# Altium footprint library Misc.PcbLib: 18 footprints (part 1 of 2)
Each footprint in its own frame and in the unit in brackets; x right, y up, seen from the top. Pads: shape width x height; smd on the part's side, far side on the other; paste and mask are expansions set on the pad; w line width, h text height; cw(c..) or ccw(c..) is an arc to the next point about the centre after c.
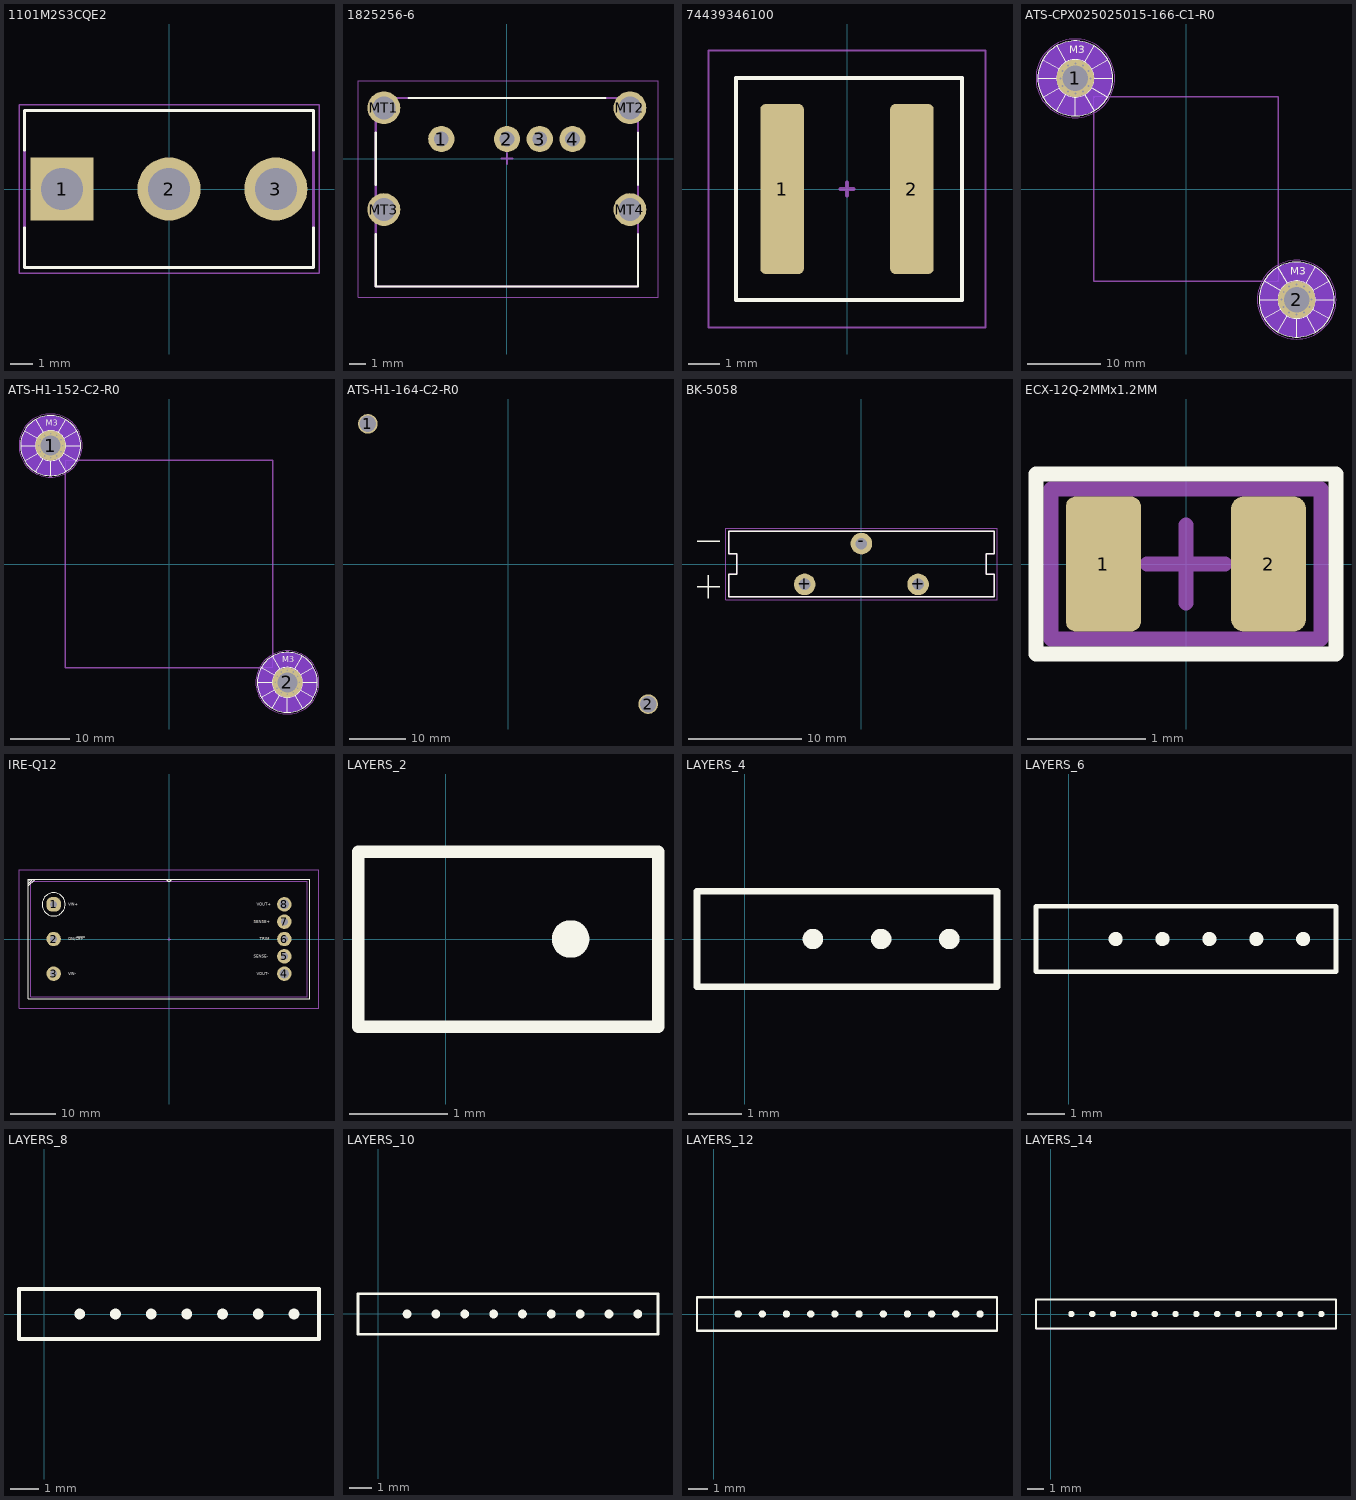
[diagram p0: the footprints below, top view; thin cyan lines are the x and y axes]

## 1101M2S3CQE2 [mm]
pads (3):
  rect 2.775x2.775 / inner round 2.775 / far side rect 2.775x2.775 hole 1.85: 1(-4.7,0)
  round 2.775 hole 1.85: 2(0,0) 3(4.7,0)
Top Overlay:
  lines w0.127: -6.35,-1.707 -6.35,-3.454 6.35,-3.454 6.35,-1.707 ; -6.35,1.707 -6.35,3.454 6.35,3.454 6.35,1.707
Top Designator:
  text "'.Comment'" at -2.54,-1.143 h0.51
  text ".Designator" at -2.539,-0.169 h0.51
Top Assembly (Mech13):
  lines w0.127: -0.33,0 0.33,0 ; 0,-0.33 0,0.33 ; -6.35,-3.454 -6.35,3.454 6.35,3.454 6.35,-3.454 -6.35,-3.454
Top Courtyard (Mech15):
  lines w0.064: -6.6,-3.704 6.6,-3.704 6.6,3.704 -6.6,3.704 -6.6,-3.704
3D body "1101M2S3CQE2--3DModel-STEP-56544.STEP": height 13.35, standoff -4.43, extent -6.35,-3.302 6.35,3.302

## 1825256-6 [mm] "SWITCH SLIDE SP3T 0.4VA 20V"
height 7.5
pads (8):
  round 1.6 hole 0.9: 1(-4,1.2) 2(0,1.2) 3(2,1.2) 4(4,1.2)
  round 2 hole 1.4: MT1(-7.5,3.1) MT2(7.5,3.1) MT3(-7.5,-3.1) MT4(7.5,-3.1)
Top Overlay:
  lines w0.127: -8,-4.6 -8,-7.8 8,-7.8 8,-4.6 ; -8,-1.6 -8,1.6 ; -6,3.7 6,3.7 ; 8,-1.6 8,1.6
Top Designator:
  text ".Designator" at -2.539,-0.069 h0.51
  text "'.Comment'" at -2.54,-1.043 h0.51
Top Assembly (Mech13):
  lines w0.127: -0.33,0 0.33,0 ; 0,-0.33 0,0.33 ; -8,-7.8 -8,3.7 8,3.7 8,-7.8 -8,-7.8
Top Courtyard (Mech15):
  lines w0.064: -9.08,-8.452 -9.08,4.756 9.208,4.756 9.208,-8.452 -9.08,-8.452
3D body "c-1825256-6-b1-3d.stp": height 7.51, standoff -3.49, extent -8,-7.8 8,3.4

## 74439346100 [mil]
height 240
pads (2):
  rrect25% 55x215 smd: 1(-82,0) 2(82,0)
Top Overlay:
  lines w5: -140,-140 -140,140 145,140 145,-140 -140,-140
Top Designator:
  text "'.Designator'" at -107.61,20.67 h20
  text "'.Comment'" at -107.61,-29.47 h20
Top Assembly (Mech13):
  lines w5: -8,0 8,0 ; 0,-8 0,8 ; -140,-140 -140,140 145,140 145,-140 -140,-140
Top Courtyard (Mech15):
  lines w2.5: -175,-175 175,-175 175,175 -175,175 -175,-175
3D body "IND_74439346100_WRE.step": height 240.12, standoff 0, extent -130.98,-135 130.98,135

## ATS-CPX025025015-166-C1-R0 [mm]
pads (2):
  round 5.08 hole 3.429: 1(-15,15) 2(15,-15)
via -13.984,16.76 diameter 0.508 hole 0.254
via -13.24,16.016 diameter 0.508 hole 0.254
via -12.968,15 diameter 0.508 hole 0.254
via -13.24,13.984 diameter 0.508 hole 0.254
via -13.984,13.24 diameter 0.508 hole 0.254
via -15,12.968 diameter 0.508 hole 0.254
via -16.016,13.24 diameter 0.508 hole 0.254
via -16.76,13.984 diameter 0.508 hole 0.254
via -17.032,15 diameter 0.508 hole 0.254
via -16.753,16.019 diameter 0.508 hole 0.254
via -16.016,16.76 diameter 0.508 hole 0.254
via -15,17.032 diameter 0.508 hole 0.254
via 16.016,-13.24 diameter 0.508 hole 0.254
via 16.76,-13.984 diameter 0.508 hole 0.254
via 17.032,-15 diameter 0.508 hole 0.254
via 16.76,-16.016 diameter 0.508 hole 0.254
via 16.016,-16.76 diameter 0.508 hole 0.254
via 15,-17.032 diameter 0.508 hole 0.254
via 13.984,-16.76 diameter 0.508 hole 0.254
via 13.24,-16.016 diameter 0.508 hole 0.254
via 12.968,-15 diameter 0.508 hole 0.254
via 13.247,-13.981 diameter 0.508 hole 0.254
via 13.984,-13.24 diameter 0.508 hole 0.254
via 15,-12.968 diameter 0.508 hole 0.254
Top Layer keep-out:
  region: -15,9.92 -15.333,9.92 -15.993,10.007 -16.636,10.179 -17.252,10.434 -17.828,10.767 -18.357,11.172 -18.828,11.643 -19.233,12.172 -19.566,12.748 -19.821,13.364 -19.993,14.007 -20.08,14.667 -20.08,15 -20.08,15.333 -19.993,15.993 -19.821,16.636 -19.566,17.252 -19.233,17.828 -18.828,18.357 -18.357,18.828 -17.828,19.233 -17.252,19.566 -16.636,19.821 -15.993,19.993 -15.333,20.08 -15,20.08 -14.667,20.08 -14.007,19.993 -13.364,19.821 -12.748,19.566 -12.172,19.233 -11.643,18.828 -11.172,18.357 -10.767,17.828 -10.434,17.252 -10.179,16.636 -10.007,15.993 -9.92,15.333 -9.92,15 -9.92,14.667 -10.007,14.007 -10.179,13.364 -10.434,12.748 -10.767,12.172 -11.172,11.643 -11.643,11.172 -12.172,10.767 -12.748,10.434 -13.364,10.179 -14.007,10.007 -14.667,9.92
  region: 15,-20.08 14.667,-20.08 14.007,-19.993 13.364,-19.821 12.748,-19.566 12.172,-19.233 11.643,-18.828 11.172,-18.357 10.767,-17.828 10.434,-17.252 10.179,-16.636 10.007,-15.993 9.92,-15.333 9.92,-15 9.92,-14.667 10.007,-14.007 10.179,-13.364 10.434,-12.748 10.767,-12.172 11.172,-11.643 11.643,-11.172 12.172,-10.767 12.748,-10.434 13.364,-10.179 14.007,-10.007 14.667,-9.92 15,-9.92 15.333,-9.92 15.993,-10.007 16.636,-10.179 17.252,-10.434 17.828,-10.767 18.357,-11.172 18.828,-11.643 19.233,-12.172 19.566,-12.748 19.821,-13.364 19.993,-14.007 20.08,-14.667 20.08,-15 20.08,-15.333 19.993,-15.993 19.821,-16.636 19.566,-17.252 19.233,-17.828 18.828,-18.357 18.357,-18.828 17.828,-19.233 17.252,-19.566 16.636,-19.821 15.993,-19.993 15.333,-20.08
Bottom Layer keep-out:
  region: -15,9.92 -15.333,9.92 -15.993,10.007 -16.636,10.179 -17.252,10.434 -17.828,10.767 -18.357,11.172 -18.828,11.643 -19.233,12.172 -19.566,12.748 -19.821,13.364 -19.993,14.007 -20.08,14.667 -20.08,15 -20.08,15.333 -19.993,15.993 -19.821,16.636 -19.566,17.252 -19.233,17.828 -18.828,18.357 -18.357,18.828 -17.828,19.233 -17.252,19.566 -16.636,19.821 -15.993,19.993 -15.333,20.08 -15,20.08 -14.667,20.08 -14.007,19.993 -13.364,19.821 -12.748,19.566 -12.172,19.233 -11.643,18.828 -11.172,18.357 -10.767,17.828 -10.434,17.252 -10.179,16.636 -10.007,15.993 -9.92,15.333 -9.92,15 -9.92,14.667 -10.007,14.007 -10.179,13.364 -10.434,12.748 -10.767,12.172 -11.172,11.643 -11.643,11.172 -12.172,10.767 -12.748,10.434 -13.364,10.179 -14.007,10.007 -14.667,9.92
  region: 15,-20.08 14.667,-20.08 14.007,-19.993 13.364,-19.821 12.748,-19.566 12.172,-19.233 11.643,-18.828 11.172,-18.357 10.767,-17.828 10.434,-17.252 10.179,-16.636 10.007,-15.993 9.92,-15.333 9.92,-15 9.92,-14.667 10.007,-14.007 10.179,-13.364 10.434,-12.748 10.767,-12.172 11.172,-11.643 11.643,-11.172 12.172,-10.767 12.748,-10.434 13.364,-10.179 14.007,-10.007 14.667,-9.92 15,-9.92 15.333,-9.92 15.993,-10.007 16.636,-10.179 17.252,-10.434 17.828,-10.767 18.357,-11.172 18.828,-11.643 19.233,-12.172 19.566,-12.748 19.821,-13.364 19.993,-14.007 20.08,-14.667 20.08,-15 20.08,-15.333 19.993,-15.993 19.821,-16.636 19.566,-17.252 19.233,-17.828 18.828,-18.357 18.357,-18.828 17.828,-19.233 17.252,-19.566 16.636,-19.821 15.993,-19.993 15.333,-20.08
Top Overlay:
  circle w0.127: c-15,15 r5.08
  circle w0.127: c-15,15 r2.54
  circle w0.127: c15,-15 r5.08
  circle w0.127: c15,-15 r2.54
  lines w0.127: -20.08,15 -17.54,15 ; -19.399,12.46 -17.2,13.73 ; -19.399,17.54 -17.2,16.27 ; -17.54,10.601 -16.27,12.8 ; -17.54,19.399 -16.27,17.2 ; -15,9.92 -15,12.46 ; -13.73,12.8 -12.46,10.601 ; -13.73,17.2 -12.46,19.399 ; -12.8,13.73 -10.601,12.46 ; -12.8,16.27 -10.601,17.54 ; -12.46,15 -9.92,15 ; 9.92,-15 12.46,-15 ; 10.601,-17.54 12.8,-16.27 ; 10.601,-12.46 12.8,-13.73 ; 12.46,-19.399 13.73,-17.2 ; 12.46,-10.601 13.73,-12.8 ; 15,-20.08 15,-17.54 ; 16.27,-17.2 17.54,-19.399 ; 16.27,-12.8 17.54,-10.601 ; 17.2,-16.27 19.399,-17.54 ; 17.2,-13.73 19.399,-12.46 ; 17.54,-15 20.08,-15
  text "M3" at -15.838,18.378 h1.02
  text "M3" at 14.162,-11.622 h1.02
Bottom Overlay:
  text "M3" at -14.162,18.378 h1.02
  text "M3" at 15.838,-11.622 h1.02
Top Assembly (Mech13):
  circle w0.127: c-15,15 r2.54
  circle w0.127: c-15,15 r1.714
  circle w0.127: c15,-15 r2.54
  circle w0.127: c15,-15 r1.714
  lines w0.254: -12.5,-12.5 -12.5,12.5 12.5,12.5 12.5,-12.5 -12.5,-12.5
  text "M3" at -15.838,18.378 h1.02
  text "M3" at 14.162,-11.622 h1.02
Top Courtyard (Mech15):
  circle w0.064: c-15,15 r5.334
  circle w0.064: c15,-15 r5.334
Bottom Courtyard (Mech16):
  circle w0.064: c-15,15 r5.334
  circle w0.064: c15,-15 r5.334
3D body "leptit-Body.step": height 17.23, standoff 2.23, extent -18.298,-18.293 18.288,18.293

## ATS-H1-152-C2-R0 [mm]
pads (2):
  round 5.08 hole 3.429: 1(-20,20) 2(20,-20)
via -18.984,21.76 diameter 0.508 hole 0.254
via -18.24,21.016 diameter 0.508 hole 0.254
via -17.968,20 diameter 0.508 hole 0.254
via -18.24,18.984 diameter 0.508 hole 0.254
via -18.984,18.24 diameter 0.508 hole 0.254
via -20,17.968 diameter 0.508 hole 0.254
via -21.016,18.24 diameter 0.508 hole 0.254
via -21.76,18.984 diameter 0.508 hole 0.254
via -22.032,20 diameter 0.508 hole 0.254
via -21.753,21.019 diameter 0.508 hole 0.254
via -21.016,21.76 diameter 0.508 hole 0.254
via -20,22.032 diameter 0.508 hole 0.254
via 21.016,-18.24 diameter 0.508 hole 0.254
via 21.76,-18.984 diameter 0.508 hole 0.254
via 22.032,-20 diameter 0.508 hole 0.254
via 21.76,-21.016 diameter 0.508 hole 0.254
via 21.016,-21.76 diameter 0.508 hole 0.254
via 20,-22.032 diameter 0.508 hole 0.254
via 18.984,-21.76 diameter 0.508 hole 0.254
via 18.24,-21.016 diameter 0.508 hole 0.254
via 17.968,-20 diameter 0.508 hole 0.254
via 18.247,-18.981 diameter 0.508 hole 0.254
via 18.984,-18.24 diameter 0.508 hole 0.254
via 20,-17.968 diameter 0.508 hole 0.254
Top Layer keep-out:
  region: -20,14.92 -20.333,14.92 -20.993,15.007 -21.636,15.179 -22.252,15.434 -22.828,15.767 -23.357,16.172 -23.828,16.643 -24.233,17.172 -24.566,17.748 -24.821,18.364 -24.993,19.007 -25.08,19.667 -25.08,20 -25.08,20.333 -24.993,20.993 -24.821,21.636 -24.566,22.252 -24.233,22.828 -23.828,23.357 -23.357,23.828 -22.828,24.233 -22.252,24.566 -21.636,24.821 -20.993,24.993 -20.333,25.08 -20,25.08 -19.667,25.08 -19.007,24.993 -18.364,24.821 -17.748,24.566 -17.172,24.233 -16.643,23.828 -16.172,23.357 -15.767,22.828 -15.434,22.252 -15.179,21.636 -15.007,20.993 -14.92,20.333 -14.92,20 -14.92,19.667 -15.007,19.007 -15.179,18.364 -15.434,17.748 -15.767,17.172 -16.172,16.643 -16.643,16.172 -17.172,15.767 -17.748,15.434 -18.364,15.179 -19.007,15.007 -19.667,14.92
  region: 20,-25.08 19.667,-25.08 19.007,-24.993 18.364,-24.821 17.748,-24.566 17.172,-24.233 16.643,-23.828 16.172,-23.357 15.767,-22.828 15.434,-22.252 15.179,-21.636 15.007,-20.993 14.92,-20.333 14.92,-20 14.92,-19.667 15.007,-19.007 15.179,-18.364 15.434,-17.748 15.767,-17.172 16.172,-16.643 16.643,-16.172 17.172,-15.767 17.748,-15.434 18.364,-15.179 19.007,-15.007 19.667,-14.92 20,-14.92 20.333,-14.92 20.993,-15.007 21.636,-15.179 22.252,-15.434 22.828,-15.767 23.357,-16.172 23.828,-16.643 24.233,-17.172 24.566,-17.748 24.821,-18.364 24.993,-19.007 25.08,-19.667 25.08,-20 25.08,-20.333 24.993,-20.993 24.821,-21.636 24.566,-22.252 24.233,-22.828 23.828,-23.357 23.357,-23.828 22.828,-24.233 22.252,-24.566 21.636,-24.821 20.993,-24.993 20.333,-25.08
Bottom Layer keep-out:
  region: -20,14.92 -20.333,14.92 -20.993,15.007 -21.636,15.179 -22.252,15.434 -22.828,15.767 -23.357,16.172 -23.828,16.643 -24.233,17.172 -24.566,17.748 -24.821,18.364 -24.993,19.007 -25.08,19.667 -25.08,20 -25.08,20.333 -24.993,20.993 -24.821,21.636 -24.566,22.252 -24.233,22.828 -23.828,23.357 -23.357,23.828 -22.828,24.233 -22.252,24.566 -21.636,24.821 -20.993,24.993 -20.333,25.08 -20,25.08 -19.667,25.08 -19.007,24.993 -18.364,24.821 -17.748,24.566 -17.172,24.233 -16.643,23.828 -16.172,23.357 -15.767,22.828 -15.434,22.252 -15.179,21.636 -15.007,20.993 -14.92,20.333 -14.92,20 -14.92,19.667 -15.007,19.007 -15.179,18.364 -15.434,17.748 -15.767,17.172 -16.172,16.643 -16.643,16.172 -17.172,15.767 -17.748,15.434 -18.364,15.179 -19.007,15.007 -19.667,14.92
  region: 20,-25.08 19.667,-25.08 19.007,-24.993 18.364,-24.821 17.748,-24.566 17.172,-24.233 16.643,-23.828 16.172,-23.357 15.767,-22.828 15.434,-22.252 15.179,-21.636 15.007,-20.993 14.92,-20.333 14.92,-20 14.92,-19.667 15.007,-19.007 15.179,-18.364 15.434,-17.748 15.767,-17.172 16.172,-16.643 16.643,-16.172 17.172,-15.767 17.748,-15.434 18.364,-15.179 19.007,-15.007 19.667,-14.92 20,-14.92 20.333,-14.92 20.993,-15.007 21.636,-15.179 22.252,-15.434 22.828,-15.767 23.357,-16.172 23.828,-16.643 24.233,-17.172 24.566,-17.748 24.821,-18.364 24.993,-19.007 25.08,-19.667 25.08,-20 25.08,-20.333 24.993,-20.993 24.821,-21.636 24.566,-22.252 24.233,-22.828 23.828,-23.357 23.357,-23.828 22.828,-24.233 22.252,-24.566 21.636,-24.821 20.993,-24.993 20.333,-25.08
Top Overlay:
  circle w0.127: c-20,20 r5.08
  circle w0.127: c-20,20 r2.54
  circle w0.127: c20,-20 r5.08
  circle w0.127: c20,-20 r2.54
  lines w0.127: -25.08,20 -22.54,20 ; -24.399,17.46 -22.2,18.73 ; -24.399,22.54 -22.2,21.27 ; -22.54,15.601 -21.27,17.8 ; -22.54,24.399 -21.27,22.2 ; -20,14.92 -20,17.46 ; -18.73,17.8 -17.46,15.601 ; -18.73,22.2 -17.46,24.399 ; -17.8,18.73 -15.601,17.46 ; -17.8,21.27 -15.601,22.54 ; -17.46,20 -14.92,20 ; 14.92,-20 17.46,-20 ; 15.601,-22.54 17.8,-21.27 ; 15.601,-17.46 17.8,-18.73 ; 17.46,-24.399 18.73,-22.2 ; 17.46,-15.601 18.73,-17.8 ; 20,-25.08 20,-22.54 ; 21.27,-22.2 22.54,-24.399 ; 21.27,-17.8 22.54,-15.601 ; 22.2,-21.27 24.399,-22.54 ; 22.2,-18.73 24.399,-17.46 ; 22.54,-20 25.08,-20
  text "M3" at -20.838,23.378 h1.02
  text "M3" at 19.162,-16.622 h1.02
Bottom Overlay:
  text "M3" at -19.162,23.378 h1.02
  text "M3" at 20.838,-16.622 h1.02
Top Assembly (Mech13):
  circle w0.127: c-20,20 r2.54
  circle w0.127: c-20,20 r1.714
  circle w0.127: c20,-20 r2.54
  circle w0.127: c20,-20 r1.714
  lines w0.254: -17.5,-17.5 17.5,-17.5 17.5,17.5 -17.5,17.5 -17.5,-17.5
  text "M3" at -20.838,23.378 h1.02
  text "M3" at 19.162,-16.622 h1.02
Top Courtyard (Mech15):
  circle w0.064: c-20,20 r5.334
  circle w0.064: c20,-20 r5.334
Bottom Courtyard (Mech16):
  circle w0.064: c-20,20 r5.334
  circle w0.064: c20,-20 r5.334
3D body "legros.-Body.step": height 38.5, standoff 2.3, extent -24.125,-24.125 24.125,24.125

## ATS-H1-164-C2-R0 [mm]
pads (2):
  round 3.5 hole 3 paste-2539.97: 1(-25,25)
  round 3.5 hole 3: 2(25,-25)
3D body "legros.-Body.step": height 37.23, standoff 2.23, extent -29.918,-29.945 29.972,29.945

## BK-5058 [mm] "BATT HLDR COIN 20MM 1 CEL PC PIN"
pads (3):
  round 1.905 hole 1.016: +(-5,-1.8) +(5,-1.8) -(0,1.8)
Top Overlay:
  lines w0.127: -14.5,-2 -13.5,-2 ; -14.5,2 -12.5,2 ; -13.5,-3 -13.5,-2 ; -13.5,-1 -13.5,-2 ; -12.5,-2 -13.5,-2 ; -11.71,-2.9 11.71,-2.9 11.71,-0.9 11,-0.9 11,0.9 11.71,0.9 11.71,2.9 -11.71,2.9 -11.71,0.9 -11,0.9 -11,-0.9 -11.71,-0.9 -11.71,-2.9
Top Assembly (Mech13):
  lines w0.127: -11.71,-2.9 11.71,-2.9 11.71,-0.9 11,-0.9 11,0.9 11.71,0.9 11.71,2.9 -11.71,2.9 -11.71,0.9 -11,0.9 -11,-0.9 -11.71,-0.9 -11.71,-2.9
Top Courtyard (Mech15):
  lines w0.05: -11.96,-3.15 11.96,-3.15 11.96,3.15 -11.96,3.15 -11.96,-3.15
3D body "BK-5058.step": height 21.42, standoff -2.78, extent -11.71,-2.9 11.71,2.9

## ECX-12Q-2MMx1.2MM [mm] "Crystal Oscillator Footprint ESC Inc. / For ECS-.327-7-12QS-TR"
height 0.635
pads (2):
  rrect25% 0.635x1.143 smd: 1(-0.7,0)
  rrect33% 0.635x1.143 smd: 2(0.7,0)
Top Overlay:
  lines w0.127: -1.27,-0.762 -1.27,0.762 1.27,0.762 1.27,-0.762 -1.27,-0.762
Top Designator:
  text ".Designator" at -2.539,-0.069 h0.51
  text "'.Comment'" at -2.54,-1.043 h0.51
Top Assembly (Mech13):
  lines w0.127: -0.33,0 0.33,0 ; 0,-0.33 0,0.33 ; -1.143,-0.635 -1.143,0.635 1.143,0.635 1.143,-0.635 -1.143,-0.635
Top Courtyard (Mech15):
  lines w0.064: -1.27,-0.762 -1.27,0.762 1.27,0.762 1.27,-0.762 -1.27,-0.762
3D body "ECS-.327-12.5-12-TR.STEP": height 0.61, standoff 0.01, extent -1,-0.6 1,0.6

## IRE-Q12 [mil]
height 500
pads (8):
  rrect75% 125x125 hole 62: 1(-1000,300)
  round 125 hole 62: 2(-1000,0) 3(-1000,-300) 5(1000,-150) 6(1000,0) 7(1000,150)
  round 125 hole 84: 4(1000,-300) 8(1000,300)
Top Overlay:
  circle w5: c-1000,300 r100
  lines w5: -1220,460 -1160,520 ; -1220,480 -1180,520 ; -1220,500 -1200,520 ; -800,20 -730,20 ; -20,520 ccw(c0,520) 20,520 ; -1220,-520 1220,-520 1220,520 -1220,520 -1220,-520
  text "VIN+" at -875,287.5 h25
  text "ON/OFF" at -875,-12.5 h25
  text "VIN-" at -875,-312.5 h25
  text "VOUT-" at 758.37,-312.5 h25
  text "SENSE-" at 733.38,-162.5 h25
  text "TRIM" at 787.53,-12.5 h25
  text "SENSE+" at 733.38,137.5 h25
  text "VOUT+" at 758.37,287.5 h25
Top Designator:
  text "'.Comment'" at -100,-45 h20
  text ".Designator" at -99.97,-6.66 h20
Top Assembly (Mech13):
  circle w10: c-1000,300 r2.5
  lines w5: -13,0 13,0 ; 0,-13 0,13 ; -1200,-500 1200,-500 1200,500 -1200,500 -1200,-500
Top Courtyard (Mech15):
  lines w5: -1300,-600 -1300,600 1300,600 1300,-600 -1300,-600
3D body "mps_dcdc_ire_standard_a.step": height 507.5, standoff -140.5, extent -1205,-505 1205,505

## LAYERS_2 [mm] "Copper marking indicating layer ordering"
Top Layer:
  text "1" at -0.635,-0.635 h1.27
Bottom Layer:
  text "2" at 0.635,-0.635 h1.27
Top Overlay:
  circle w0.254: c1.27,0 r0.064
  lines w0.127: -0.889,-0.889 2.159,-0.889 2.159,0.889 -0.889,0.889 -0.889,-0.889
Top Courtyard (Mech15):
  lines w0.064: -0.889,-0.889 2.159,-0.889 2.159,0.889 -0.889,0.889 -0.889,-0.889
Multi-Layer:
  pour cut-out: -0.762,0.762 2.032,0.762 2.032,-0.762 -0.762,-0.762

## LAYERS_4 [mm] "Copper marking indicating layer ordering"
Top Layer:
  text "1" at -0.635,-0.635 h1.27
Layer 2:
  text "2" at 0.635,-0.635 h1.27
Layer 3:
  text "3" at 1.905,-0.635 h1.27
Bottom Layer:
  text "4" at 3.175,-0.635 h1.27
Top Overlay:
  circle w0.254: c1.27,0 r0.064
  circle w0.254: c2.54,0 r0.064
  circle w0.254: c3.81,0 r0.064
  lines w0.127: -0.889,-0.889 4.699,-0.889 4.699,0.889 -0.889,0.889 -0.889,-0.889
Top Courtyard (Mech15):
  lines w0.064: -0.889,-0.889 4.699,-0.889 4.699,0.889 -0.889,0.889 -0.889,-0.889
Multi-Layer:
  pour cut-out: -0.762,0.762 4.572,0.762 4.572,-0.762 -0.762,-0.762

## LAYERS_6 [mm] "Copper marking indicating layer ordering"
Top Layer:
  text "1" at -0.635,-0.635 h1.27
Layer 2:
  text "2" at 0.635,-0.635 h1.27
Layer 3:
  text "3" at 1.905,-0.635 h1.27
Layer 4:
  text "4" at 3.175,-0.635 h1.27
Layer 5:
  text "5" at 4.445,-0.635 h1.27
Bottom Layer:
  text "6" at 5.715,-0.635 h1.27
Top Overlay:
  circle w0.254: c6.35,0 r0.064
  circle w0.254: c5.08,0 r0.064
  circle w0.254: c3.81,0 r0.064
  circle w0.254: c2.54,0 r0.064
  circle w0.254: c1.27,0 r0.064
  lines w0.127: -0.889,-0.889 7.239,-0.889 7.239,0.889 -0.889,0.889 -0.889,-0.889
Top Courtyard (Mech15):
  lines w0.064: -0.889,-0.889 7.239,-0.889 7.239,0.889 -0.889,0.889 -0.889,-0.889
Multi-Layer:
  pour cut-out: -0.762,0.762 7.112,0.762 7.112,-0.762 -0.762,-0.762

## LAYERS_8 [mm] "Copper marking indicating layer ordering"
Top Layer:
  text "1" at -0.635,-0.635 h1.27
Layer 2:
  text "2" at 0.635,-0.635 h1.27
Layer 3:
  text "3" at 1.905,-0.635 h1.27
Layer 4:
  text "4" at 3.175,-0.635 h1.27
Layer 5:
  text "5" at 4.445,-0.635 h1.27
Layer 6:
  text "6" at 5.715,-0.635 h1.27
Layer 7:
  text "7" at 6.985,-0.635 h1.27
Bottom Layer:
  text "8" at 8.255,-0.635 h1.27
Top Overlay:
  circle w0.254: c8.89,0 r0.064
  circle w0.254: c7.62,0 r0.064
  circle w0.254: c6.35,0 r0.064
  circle w0.254: c5.08,0 r0.064
  circle w0.254: c3.81,0 r0.064
  circle w0.254: c2.54,0 r0.064
  circle w0.254: c1.27,0 r0.064
  lines w0.127: -0.889,-0.889 9.779,-0.889 9.779,0.889 -0.889,0.889 -0.889,-0.889
Top Courtyard (Mech15):
  lines w0.064: -0.889,-0.889 9.779,-0.889 9.779,0.889 -0.889,0.889 -0.889,-0.889
Multi-Layer:
  pour cut-out: -0.762,0.762 9.652,0.762 9.652,-0.762 -0.762,-0.762

## LAYERS_10 [mm] "Copper marking indicating layer ordering"
Top Layer:
  text "1" at -0.635,-0.635 h1.27
Layer 2:
  text "2" at 0.635,-0.635 h1.27
Layer 3:
  text "3" at 1.905,-0.635 h1.27
Layer 4:
  text "4" at 3.175,-0.635 h1.27
Layer 5:
  text "5" at 4.445,-0.635 h1.27
Layer 6:
  text "6" at 5.715,-0.635 h1.27
Layer 7:
  text "7" at 6.985,-0.635 h1.27
Layer 8:
  text "8" at 8.255,-0.635 h1.27
Layer 9:
  text "9" at 9.525,-0.635 h1.27
Bottom Layer:
  text "10" at 10.795,-0.635 h1.27
Top Overlay:
  circle w0.254: c11.43,0 r0.064
  circle w0.254: c10.16,0 r0.064
  circle w0.254: c8.89,0 r0.064
  circle w0.254: c7.62,0 r0.064
  circle w0.254: c6.35,0 r0.064
  circle w0.254: c5.08,0 r0.064
  circle w0.254: c3.81,0 r0.064
  circle w0.254: c2.54,0 r0.064
  circle w0.254: c1.27,0 r0.064
  lines w0.127: -0.889,-0.889 12.319,-0.889 12.319,0.889 -0.889,0.889 -0.889,-0.889
Top Courtyard (Mech15):
  lines w0.064: -0.889,-0.889 12.319,-0.889 12.319,0.889 -0.889,0.889 -0.889,-0.889
Multi-Layer:
  pour cut-out: -0.762,0.762 12.192,0.762 12.192,-0.762 -0.762,-0.762

## LAYERS_12 [mm] "Copper marking indicating layer ordering"
Top Layer:
  text "1" at -0.635,-0.635 h1.27
Layer 2:
  text "2" at 0.635,-0.635 h1.27
Layer 3:
  text "3" at 1.905,-0.635 h1.27
Layer 4:
  text "4" at 3.175,-0.635 h1.27
Layer 5:
  text "5" at 4.445,-0.635 h1.27
Layer 6:
  text "6" at 5.715,-0.635 h1.27
Layer 7:
  text "7" at 6.985,-0.635 h1.27
Layer 8:
  text "8" at 8.255,-0.635 h1.27
Layer 9:
  text "9" at 9.525,-0.635 h1.27
Layer 10:
  text "10" at 10.795,-0.635 h1.27
Layer 11:
  text "11" at 12.065,-0.635 h1.27
Bottom Layer:
  text "12" at 13.335,-0.635 h1.27
Top Overlay:
  circle w0.254: c1.27,0 r0.064
  circle w0.254: c2.54,0 r0.064
  circle w0.254: c3.81,0 r0.064
  circle w0.254: c5.08,0 r0.064
  circle w0.254: c6.35,0 r0.064
  circle w0.254: c7.62,0 r0.064
  circle w0.254: c8.89,0 r0.064
  circle w0.254: c10.16,0 r0.064
  circle w0.254: c11.43,0 r0.064
  circle w0.254: c12.7,0 r0.064
  circle w0.254: c13.97,0 r0.064
  lines w0.127: -0.889,-0.889 14.859,-0.889 14.859,0.889 -0.889,0.889 -0.889,-0.889
Top Courtyard (Mech15):
  lines w0.064: -0.889,-0.889 14.859,-0.889 14.859,0.889 -0.889,0.889 -0.889,-0.889
Multi-Layer:
  pour cut-out: -0.762,0.762 14.732,0.762 14.732,-0.762 -0.762,-0.762

## LAYERS_14 [mm] "Copper marking indicating layer ordering"
Top Layer:
  text "1" at -0.635,-0.635 h1.27
Layer 2:
  text "2" at 0.635,-0.635 h1.27
Layer 3:
  text "3" at 1.905,-0.635 h1.27
Layer 4:
  text "4" at 3.175,-0.635 h1.27
Layer 5:
  text "5" at 4.445,-0.635 h1.27
Layer 6:
  text "6" at 5.715,-0.635 h1.27
Layer 7:
  text "7" at 6.985,-0.635 h1.27
Layer 8:
  text "8" at 8.255,-0.635 h1.27
Layer 9:
  text "9" at 9.525,-0.635 h1.27
Layer 10:
  text "10" at 10.795,-0.635 h1.27
Layer 11:
  text "11" at 12.065,-0.635 h1.27
Layer 12:
  text "12" at 13.335,-0.635 h1.27
Layer 13:
  text "13" at 14.605,-0.635 h1.27
Bottom Layer:
  text "14" at 15.875,-0.635 h1.27
Top Overlay:
  circle w0.254: c1.27,0 r0.064
  circle w0.254: c2.54,0 r0.064
  circle w0.254: c3.81,0 r0.064
  circle w0.254: c5.08,0 r0.064
  circle w0.254: c6.35,0 r0.064
  circle w0.254: c7.62,0 r0.064
  circle w0.254: c8.89,0 r0.064
  circle w0.254: c10.16,0 r0.064
  circle w0.254: c11.43,0 r0.064
  circle w0.254: c12.7,0 r0.064
  circle w0.254: c13.97,0 r0.064
  circle w0.254: c15.24,0 r0.064
  circle w0.254: c16.51,0 r0.064
  lines w0.127: -0.889,-0.889 17.399,-0.889 17.399,0.889 -0.889,0.889 -0.889,-0.889
Top Courtyard (Mech15):
  lines w0.064: -0.889,-0.889 17.399,-0.889 17.399,0.889 -0.889,0.889 -0.889,-0.889
Multi-Layer:
  pour cut-out: -0.762,0.762 17.272,0.762 17.272,-0.762 -0.762,-0.762